# EAGLE library part 61301811021 (library Board_to_Board_Connectors_rev15d)
WR-PHD 2.54mm Angled Pin Header, 18 Pins =>Con_BTB_PHD_2.54_1_THT_61301811021 <http://katalog.we-online.de/media/images/eican/Con_BTB_PHD_2.54_1_THT_61303211021_pf2.jpg> Details see: http://katalog.we-online.de/en/em/613_0xx_110_21 Created 2014-05-29, Karrer Zheng 2014 (C) Würth Elektronik
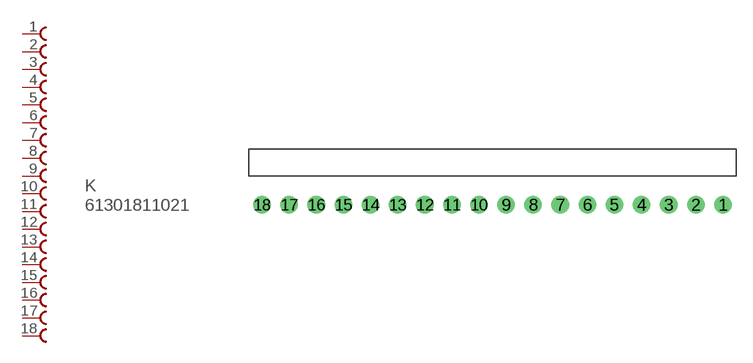
[diagram p47: symbol with the pads of 61301811021; footprint 61301811021]

Designator prefix K

## 61301811021  [61301811021]
1  1  pas
2  2  pas
3  3  pas
4  4  pas
5  5  pas
6  6  pas
7  7  pas
8  8  pas
9  9  pas
10  10  pas
11  11  pas
12  12  pas
13  13  pas
14  14  pas
15  15  pas
16  16  pas
17  17  pas
18  18  pas

## Footprint 61301811021 (pad centres in mm)
WR-PHD 2.54mm Angled Pin Header, 18 Pins
drill 1.1: 1 21.59,0; 2 19.05,0; 3 16.51,0; 4 13.97,0; 5 11.43,0; 6 8.89,0; 7 6.35,0; 8 3.81,0; 9 1.27,0; 10 -1.27,0; 11 -3.81,0; 12 -6.35,0; 13 -8.89,0; 14 -11.43,0; 15 -13.97,0; 16 -16.51,0; 17 -19.05,0; 18 -21.59,0